# EAGLE library part USB-MICROB (library arducorder-mini)
FCI USB Micro-B Socket (Part# 10104110-0001LF)
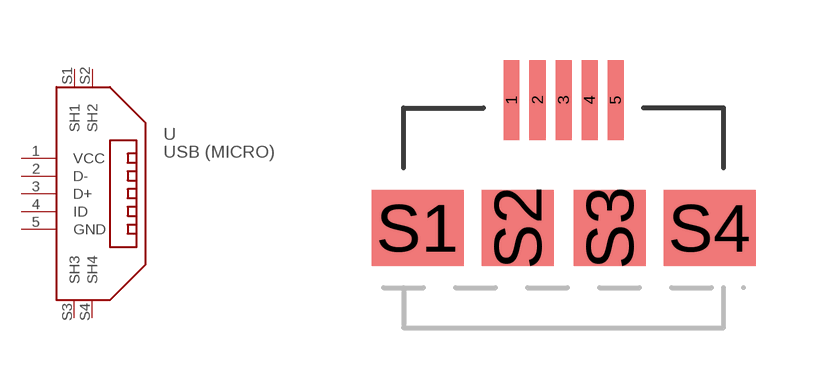
[diagram p33: symbol with the pads of FCI-10104110-0001LF; footprint FCI-10104110-0001LF]

Designator prefix -

## USB-MICROB  [FCI-10104110-0001LF]
1  VCC
2  D-
3  D+
4  ID
5  GND
S1  SH1
S2  SH2
S3  SH3
S4  SH4

## Footprint FCI-10104110-0001LF (pad centres in mm)
smd 0.4 x 2: 1 -1.3,2.2; 2 -0.65,2.2; 3 0,2.2; 4 0.65,2.2; 5 1.3,2.2
smd 2.3 x 1.9: S1 -3.65,-1; S4 3.65,-1
smd 1.8 x 1.9: S2 -1.15,-1; S3 1.15,-1